# Altium footprint library MissingComponents.PcbLib: 4 footprints
Each footprint in its own frame and in the unit in brackets; x right, y up, seen from the top. Pads: shape width x height; smd on the part's side, far side on the other; paste and mask are expansions set on the pad; w line width, h text height; cw(c..) or ccw(c..) is an arc to the next point about the centre after c.
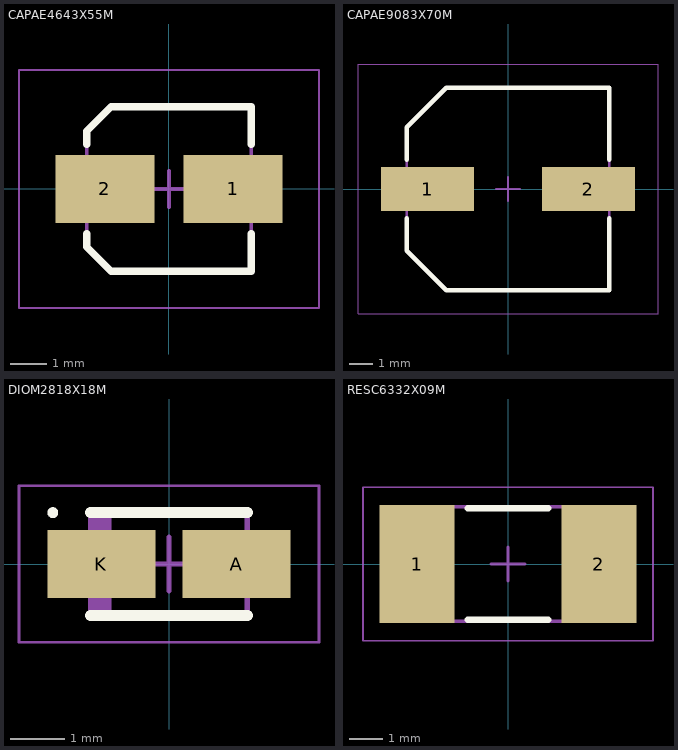
[diagram p0: the footprints below, top view; thin cyan lines are the x and y axes]

## CAPAE4643X55M [mm] "Aluminum Electrolytic Capacitor, Body 4,30x4,30x5,50mm, IPC Low Density"
height 5.5
pads (2):
  rect 2.7x1.85 smd: 1(1.75,0) 2(-1.75,0)
Top Overlay:
  lines w0.2: -2.25,-1.225 -2.25,-1.587 -1.587,-2.25 2.25,-2.25 2.25,-1.225 ; -2.25,1.225 -2.25,1.587 -1.587,2.25 2.25,2.25 2.25,1.225
Mechanical 13:
  lines w0.1: -2.25,-1.587 -2.25,1.587 -1.587,2.25 2.25,2.25 2.25,-2.25 -1.587,-2.25 -2.25,-1.587
Mechanical 15:
  lines w0.05: -4.1,-3.25 4.1,-3.25 4.1,3.25 -4.1,3.25 -4.1,-3.25
  lines w0.1: -0.5,0 0.5,0 ; 0,-0.5 0,0.5
3D body: height 5.5, standoff 0, extent -2.25,-2.25 2.25,2.243
3D body: height 1.84, standoff 0, extent -2.25,-2.25 2.25,2.25

## CAPAE9083X70M [mm] "Aluminum Electrolytic Capacitor, Body 8,30x8,30x7,00mm, IPC Low Density"
height 7
pads (2):
  rect 3.9x1.85 smd: 1(-3.375,0) 2(3.375,0)
Top Overlay:
  lines w0.2: -4.25,-1.225 -4.25,-2.588 -2.588,-4.25 4.25,-4.25 4.25,-1.225 ; -4.25,1.225 -4.25,2.588 -2.588,4.25 4.25,4.25 4.25,1.225
Mechanical 13:
  lines w0.1: -4.25,-2.588 -4.25,2.588 -2.588,4.25 4.25,4.25 4.25,-4.25 -2.588,-4.25 -4.25,-2.588
Mechanical 15:
  lines w0.05: -6.3,-5.25 6.3,-5.25 6.3,5.25 -6.3,5.25 -6.3,-5.25
  lines w0.1: -0.5,0 0.5,0 ; 0,-0.5 0,0.5
3D body: height 7, standoff 0, extent -4.25,-4.25 4.25,4.25
3D body: height 2.34, standoff 0, extent -4.25,-4.25 4.25,4.25

## DIOM2818X18M [mm] "Molded Diode, 2-Leads, Body 2,80x1,80mm, IPC Low Density"
height 1.8
pads (2):
  rect 2x1.25 smd: A(1.25,0) K(-1.25,0)
Top Overlay:
  circle w0.1: c-2.15,0.95 r0.05
  lines w0.2: -1.45,-0.95 1.45,-0.95 ; -1.45,0.95 1.45,0.95
Mechanical 13:
  rectangle: -1.45,-0.95 -1.06,0.95
  lines w0.1: -1.45,-0.95 -1.45,0.95 1.45,0.95 1.45,-0.95 -1.45,-0.95
Mechanical 15:
  lines w0.05: -2.775,-1.45 -2.775,1.45 2.775,1.45 2.775,-1.45 -2.775,-1.45
  lines w0.1: -0.5,0 0.5,0 ; 0,-0.5 0,0.5
3D body: height 1.8, standoff 0, extent -1.45,-0.95 1.45,0.95

## RESC6332X09M [mm] "Chip Resistor, 2-Leads, Body 6,35x3,18mm, IPC Low Density"
height 0.87
pads (2):
  rect 2.25x3.55 smd: 1(-2.725,0) 2(2.725,0)
Top Overlay:
  lines w0.2: -1.2,-1.675 1.2,-1.675 ; -1.2,1.675 1.2,1.675
Mechanical 13:
  lines w0.1: -3.3,-1.715 3.3,-1.715 3.3,1.715 -3.3,1.715 -3.3,-1.715
Mechanical 15:
  lines w0.05: -4.35,-2.3 4.35,-2.3 4.35,2.3 -4.35,2.3 -4.35,-2.3
  lines w0.1: -0.5,0 0.5,0 ; 0,-0.5 0,0.5
3D body: height 0.87, standoff 0, extent 2.1,-1.715 3.3,1.715
3D body: height 0.87, standoff 0, extent -3.3,-1.715 -2.1,1.715
3D body: height 0.87, standoff 0, extent -2.1,-1.715 2.1,1.715